# Altium footprint library all_kalex_Library.PcbLib: 234 footprints (part 2 of 15)
Each footprint in its own frame and in the unit in brackets; x right, y up, seen from the top. Pads: shape width x height; smd on the part's side, far side on the other; paste and mask are expansions set on the pad; w line width, h text height; cw(c..) or ccw(c..) is an arc to the next point about the centre after c.
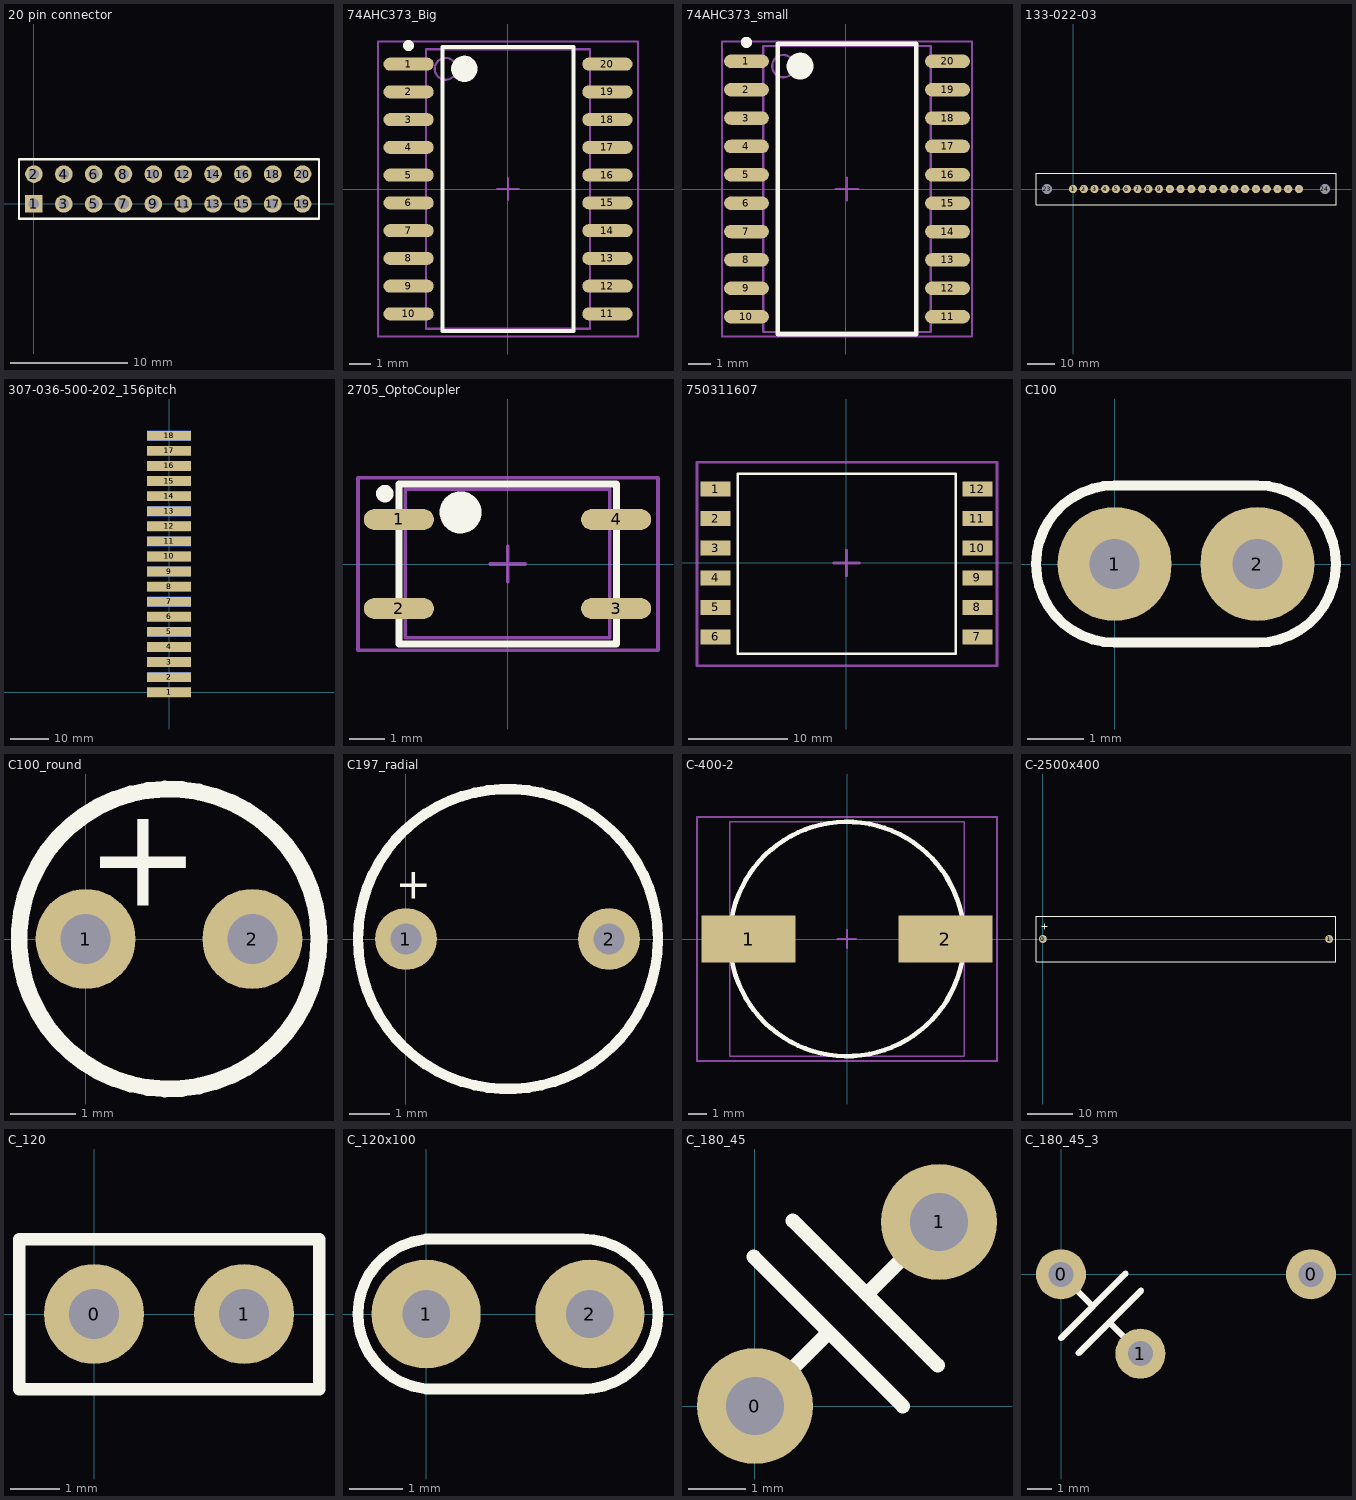
[diagram p1: the footprints below, top view; thin cyan lines are the x and y axes]

## 20 pin connector [mm]
pads (20):
  rect 1.5x1.5 hole 0.9: 1(0,0)
  round 1.5 hole 0.9: 2(0,2.54) 3(2.54,0) 4(2.54,2.54) 5(5.08,0) 6(5.08,2.54) 7(7.62,0) 8(7.62,2.54) 9(10.16,0) 10(10.16,2.54) 11(12.7,0) 12(12.7,2.54) 13(15.24,0) 14(15.24,2.54) 15(17.78,0) 16(17.78,2.54) 17(20.32,0) 18(20.32,2.54) 19(22.86,0) 20(22.86,2.54)
Top Overlay:
  lines w0.2: -1.27,-1.27 -1.27,3.81 24.257,3.81 24.257,-1.27 -1.27,-1.27

## 74AHC373_Big [mm]
pads (20):
  oval 2.3x0.6 smd: 1(-4.55,5.715) 2(-4.55,4.445) 3(-4.55,3.175) 4(-4.55,1.905) 5(-4.55,0.635) 6(-4.55,-0.635) 7(-4.55,-1.905) 8(-4.55,-3.175) 9(-4.55,-4.445) 10(-4.55,-5.715) 11(4.55,-5.715) 12(4.55,-4.445) 13(4.55,-3.175) 14(4.55,-1.905) 15(4.55,-0.635) 16(4.55,0.635) 17(4.55,1.905) 18(4.55,3.175) 19(4.55,4.445) 20(4.55,5.715)
Top Overlay:
  circle w0.25: c-4.55,6.565 r0.125
  circle w0.6: c-2,5.5 r0.3
  lines w0.2: -3,-6.5 -3,6.5 3,6.5 3,-6.5 -3,-6.5
Mechanical 13:
  circle w0.1: c-2.85,5.5 r0.5
  lines w0.1: -3.75,-6.4 -3.75,6.4 3.75,6.4 3.75,-6.4 -3.75,-6.4
Mechanical 15:
  lines w0.1: -0.5,0 0.5,0 ; 0,-0.5 0,0.5 ; -5.95,-6.75 -5.95,6.75 5.95,6.75 5.95,-6.75 -5.95,-6.75
3D body: height 2.65, standoff 0, extent -3.75,-6.4 3.75,6.4

## 74AHC373_small [mm]
pads (20):
  oval 2x0.6 smd: 1(-4.445,5.715) 2(-4.445,4.445) 3(-4.445,3.175) 4(-4.445,1.905) 5(-4.445,0.635) 6(-4.445,-0.635) 7(-4.445,-1.905) 8(-4.445,-3.175) 9(-4.445,-4.445) 10(-4.445,-5.715) 11(4.555,-5.715) 12(4.555,-4.445) 13(4.555,-3.175) 14(4.555,-1.905) 15(4.555,-0.635) 16(4.555,0.635) 17(4.555,1.905) 18(4.555,3.175) 19(4.555,4.445) 20(4.555,5.715)
Top Overlay:
  circle w0.6: c-2.045,5.5 r0.3
  circle w0.25: c-4.445,6.565 r0.125
  lines w0.2: -3.045,-6.5 3.155,-6.5 3.155,6.5 -3.045,6.5 -3.045,-6.5
Mechanical 13:
  circle w0.1: c-2.795,5.5 r0.5
  lines w0.1: -3.695,-6.4 3.805,-6.4 3.805,6.4 -3.695,6.4 -3.695,-6.4
Mechanical 15:
  lines w0.1: -0.445,0 0.555,0 ; 0.055,-0.5 0.055,0.5 ; -5.545,-6.6 5.655,-6.6 5.655,6.6 -5.545,6.6 -5.545,-6.6
3D body: height 2.65, standoff 0, extent -3.695,-6.4 3.805,6.4

## 133-022-03 [mil]
pads (24):
  round 120 hole 40: 1(0,0) 2(156,0) 3(312,0) 4(468,0) 5(624,0) 6(780,0) 7(936,0) 8(1092,0) 9(1248,0) 10(1404,0) 11(1560,0) 12(1716,0) 13(1872,0) 14(2028,0) 15(2184,0) 16(2340,0) 17(2496,0) 18(2652,0) 19(2808,0) 20(2964,0) 21(3120,0) 22(3276,0)
  round 140 on Bottom hole 140 unplated: 23(-377,0) 24(3653,0)
Top Overlay:
  lines w10: -537,-230 -537,230 3813,230 3813,-230 -537,-230

## 307-036-500-202_156pitch [mil]
pads (36):
  rect 450x100 smd far side: 1(0,-1) 2(0,155) 3(0,311) 4(0,467) 5(0,623) 6(0,779) 7(0,935) 8(0,1091) 9(0,1247) 10(0,1403) 11(0,1559) 12(0,1715) 13(0,1871) 14(0,2027) 15(0,2183) 16(0,2339) 17(0,2495) 18(0,2651)
  rect 450x100 smd: 1(0,-1) 2(0,155) 3(0,311) 4(0,467) 5(0,623) 6(0,779) 7(0,935) 8(0,1091) 9(0,1247) 10(0,1403) 11(0,1559) 12(0,1715) 13(0,1871) 14(0,2027) 15(0,2183) 16(0,2339) 17(0,2495) 18(0,2651)

## 2705_OptoCoupler [mm]
pads (4):
  oval 2x0.6 smd: 1(-3.1,1.27) 2(-3.1,-1.27) 3(3.1,-1.27) 4(3.1,1.27)
Top Overlay:
  circle w0.25: c-3.503,2.007 r0.125
  circle w0.6: c-1.341,1.473 r0.3
  lines w0.2: -3.096,-2.286 -3.096,2.286 3.104,2.286 3.104,-2.286 -3.096,-2.286
Mechanical 13:
  circle w0.1: c-1.338,1.448 r0.5
  lines w0.1: -2.921,-2.108 -2.921,2.134 2.921,2.134 2.921,-2.108 -2.921,-2.108
Mechanical 15:
  lines w0.1: -0.496,0 0.504,0 ; 0.004,-0.5 0.004,0.5 ; -4.267,-2.464 -4.267,2.464 4.293,2.464 4.293,-2.464 -4.267,-2.464
3D body: height 2.65, standoff 0, extent -2.845,-2.032 2.845,2.057

## 750311607 [mil]
pads (12):
  rect 120x60 smd: 1(-522,295) 2(-522,177) 3(-522,59) 4(-522,-59) 5(-522,-177) 6(-522,-295) 7(522,-295) 8(522,-177) 9(522,-59) 10(522,59) 11(522,177) 12(522,295)
Top Overlay:
  lines w10: -433,-362 -433,355 436,355 436,-362 -433,-362
Mechanical 15:
  lines w10: -50,0 50,0 ; 0,-50 0,50 ; -596,-409 -596,401 600,401 600,-409 -596,-409
3D body: height 250, standoff 0, extent -521,-396 521,389

## C100 [mil]
pads (2):
  round 80 hole 35: 1(0,0) 2(100,0)
Top Overlay:
  lines w7: 0,54.85 100,54.85 ; 0,55 ccw(c0,0) 0,-55 100,-55 ccw(c100,0) 100,55

## C100_round [mil]
pads (2):
  round 60 hole 30: 1(0,0) 2(100,0)
Top Overlay:
  circle w10: c50,0 r90
  text "+" at 0,20 h60

## C197_radial [mil]
pads (2):
  round 60 hole 30: 1(0,0) 2(197,0)
Top Overlay:
  circle w10: c99,0 r145.52
  text "+" at -10,39 h30

## C-400-2 [mil]
pads (2):
  rect 200x100 smd: 1(-210,0) 2(210,0)
Top Overlay:
  circle w10: c0,0 r250
Mechanical 13:
  lines w3.94: -250,-250 250,-250 250,250 -250,250 -250,-250
Mechanical 15:
  lines w3.94: -20,0 19.37,0 ; 0,-19.69 0,19.68 ; -320,-260 320,-260 320,260 -320,260 -320,-260
3D body: height 500, standoff 0, extent -238.11,-239.53 240,239.53

## C-2500x400 [mil]
pads (2):
  round 70 hole 40: 0(0,0) 1(2500,0)
Top Overlay:
  lines w10: -60,-200 2560,-200 2560,200 -60,200 -60,-200
  text "+" at -20,80 h60

## C_120 [mil]
pads (2):
  round 80 hole 40: 0(0,0) 1(120,0)
Top Overlay:
  lines w10: -60,-60 180,-60 180,60 -60,60 -60,-60

## C_120x100 [mil] "Capacitor"
pads (2):
  round 80 hole 35: 1(0,0) 2(120,0)
Top Overlay:
  lines w8: 0,-55 115,-55 ccw(c115,0) 115,55 0,55 ; 5,-55 cw(c5,0) 5,55

## C_180_45 [mil]
pads (2):
  round 80 hole 40: 0(0,0) 1(127,127)
Top Overlay:
  lines w10: -1,103 102,0 ; 0,0 51,51 ; 26,128 126,28 ; 77,77 127,127

## C_180_45_3 [mil]
pads (3):
  round 80 hole 40: 0(0,0) 0(400,0) 1(127,-127)
Top Overlay:
  lines w10: 0,-102 103,1 ; 0,0 51,-51 ; 28,-126 128,-26 ; 77,-77 127,-127